# Altium schematic symbol library NM3001.Schlib: 1 symbol
Pins are listed as number, name and electrical type; pins without a type are passive.

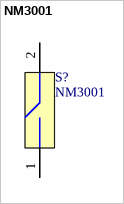
[diagram p0: symbol NM3001]

## NM3001
designator S?
Part Field 1: Tilt Switch; Part Field 6: 222-1416; Part Field 2: Two Position; Part Field 3: NM3001; Part Field 4: Signal Systems; Part Field 5: NM3001-1
footprint NM3001
pins: 1, 2